# EAGLE library part MCP6232 (library ICs)
Operational Amplifier Microchip 2 Channel Rail to Rail Operational Amplifier
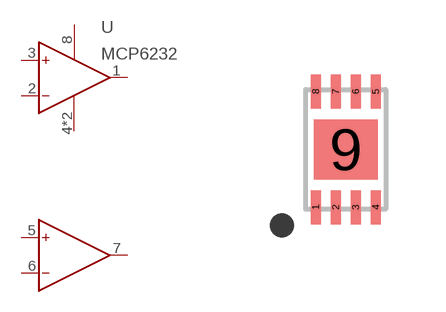
[diagram p7: symbol with the pads of TDFN-2X3; footprint TDFN-2X3]

Designator prefix U

## MCP6232T-E/MNY  [TDFN-2X3]
1  VOUTA  pas
2  VINA-  pas
3  VINA+  pas
4  VSS  pas
5  VINB+  pas
6  VINB-  pas
7  VOUTB  pas
8  VDD  pas
9  VSS  pas

## Footprint TDFN-2X3 (pad centres in mm)
8-Lead Plastic Dual Flat, No Lead Package (MNY) 2x3x0.8 mm Body [TDFN]
smd 0.25 x 0.85: 1 -0.75,-1.45; 2 -0.25,-1.45; 3 0.25,-1.45; 4 0.75,-1.45; 5 0.75,1.45; 6 0.25,1.45; 7 -0.25,1.45; 8 -0.75,1.45
smd 1.6 x 1.5: 9 0,0